# Altium schematic symbol library WE-RCIS.SchLib: 4 symbols
Pins are listed as number, name and electrical type; pins without a type are passive.

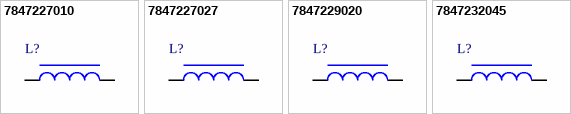
[diagram p0: symbols 7847227010 to 7847232045]

## 7847227010
designator L?, comment 1μH  (value not drawn)
WE-RCIS SMT Rod Core Inductor, 1μH, 22.5A, 2mΩ; Manufacturer Part Number: 7847227010; Manufacturer: Wurth Elektronik; Saturation Current: 29A; Self Resonant Frequency: 213MHz; Category: Filter Chokes; Match Code: WE-RCIS; ComponentLink1Description: Website Link; ComponentLink1URL: https://www.we-online.com/redexpert/article/7847227010?ad; ComponentLink2Description: Datasheet Link; ComponentLink2URL: https://www.we-online.com/redexpert/spec/7847227010?ad; Mount: Surface Mount; Min Operating Temperature: -40°C; Max Operating Temperature: 150°C; Packaging: Tape and Reel; Length: 15mm; Width: 10mm; Height: 7.8mm; Automotive: Yes; DC Resistance: 2mΩ; Inductance: 1μH; Rated Current: 22.5A
footprint 7847227010
simulation model 7847227010_1u
pins: 1, 2

## 7847227027
designator L?, comment 2.72μH  (value not drawn)
WE-RCIS SMT Rod Core Inductor, 2.72μH, 10A, 6.4mΩ; Manufacturer Part Number: 7847227027; Manufacturer: Wurth Elektronik; Saturation Current: 17.5A; Self Resonant Frequency: 100MHz; Category: Filter Chokes; Match Code: WE-RCIS; ComponentLink1Description: Website Link; ComponentLink1URL: https://www.we-online.com/redexpert/article/7847227027?ad; ComponentLink2Description: Datasheet Link; ComponentLink2URL: https://www.we-online.com/redexpert/spec/7847227027?ad; Mount: Surface Mount; Min Operating Temperature: -40°C; Max Operating Temperature: 150°C; Packaging: Tape and Reel; Length: 14.9mm; Width: 9mm; Height: 7mm; Automotive: Yes; DC Resistance: 6.4mΩ; Inductance: 2.72μH; Rated Current: 10A
footprint 7847227027
simulation model 7847227027_2.72u
pins: 1, 2

## 7847229020
designator L?, comment 1.96μH  (value not drawn)
WE-RCIS SMT Rod Core Inductor, 1.96μH, 15A, 2.4mΩ; Manufacturer Part Number: 7847229020; Manufacturer: Wurth Elektronik; Saturation Current: 39A; Self Resonant Frequency: 134MHz; Category: Filter Chokes; Match Code: WE-RCIS; ComponentLink1Description: Website Link; ComponentLink1URL: https://www.we-online.com/redexpert/article/7847229020?ad; ComponentLink2Description: Datasheet Link; ComponentLink2URL: https://www.we-online.com/redexpert/spec/7847229020?ad; Mount: Surface Mount; Min Operating Temperature: -40°C; Max Operating Temperature: 150°C; Packaging: Tape and Reel; Length: 18.1mm; Width: 9.3mm; Height: 10mm; Automotive: Yes; DC Resistance: 2.4mΩ; Inductance: 1.96μH; Rated Current: 15A
footprint 7847229020
simulation model 7847229020_1.96u
pins: 1, 2

## 7847232045
designator L?, comment 4.45μH  (value not drawn)
WE-RCIS SMT Rod Core Inductor, 4.45μH, 12A, 3.8mΩ; Manufacturer Part Number: 7847232045; Manufacturer: Wurth Elektronik; Saturation Current: 45A; Self Resonant Frequency: 40MHz; Category: Filter Chokes; Match Code: WE-RCIS; ComponentLink1Description: Website Link; ComponentLink1URL: https://www.we-online.com/redexpert/article/7847232045?ad; ComponentLink2Description: Datasheet Link; ComponentLink2URL: https://www.we-online.com/redexpert/spec/7847232045?ad; Mount: Surface Mount; Min Operating Temperature: -40°C; Max Operating Temperature: 150°C; Packaging: Tape and Reel; Length: 25mm; Width: 13mm; Height: 11.85mm; Automotive: Yes; DC Resistance: 3.8mΩ; Inductance: 4.45μH; Rated Current: 12A
footprint 7847232045
simulation model 7847232045_4.45u
pins: 1, 2